# Altium footprint library HC-49U_footprint.PcbLib: 1 footprints
Each footprint in its own frame and in the unit in brackets; x right, y up, seen from the top. Pads: shape width x height; smd on the part's side, far side on the other; paste and mask are expansions set on the pad; w line width, h text height; cw(c..) or ccw(c..) is an arc to the next point about the centre after c.
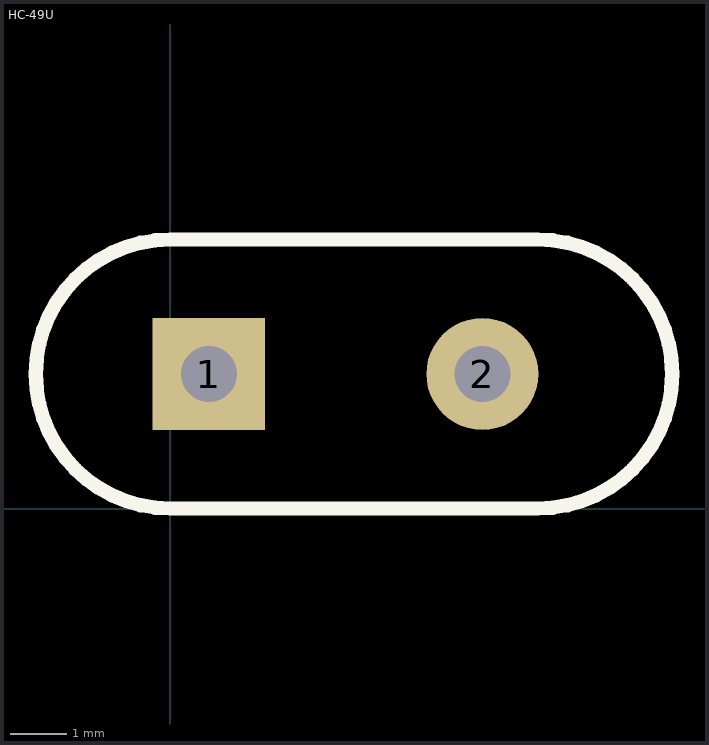
[diagram p0: the footprint, top view; thin cyan lines are the x and y axes]

## HC-49U [mm]
pads (2):
  rect 2x2 hole 1: 1(0.685,2.4)
  round 2 hole 1: 2(5.565,2.4)
Top Overlay:
  lines w0.254: 0,0 cw(c0,2.4) 0,4.8 6.55,4.8 cw(c6.55,2.4) 6.55,0 0,0